# EAGLE library part 6260XX110201_626007110201 (library WR-NPC2)
WR-NPC2 Male Header - Single Row - THT Characteristics Properties Working Voltage: 250 V Operating Temperature: -40°C up to +105°C Durability: 25 Mating cycles UL Approval: E323964 UL 94-V0 Glow Wire Approval: IEC 60335-1 Fully isolated & Protected contacts Features Coding against Mismating Applications Industrial Home Appliances Telecommunication <https://www.we-online.com/components/media/o786322v209%20Multi-WR-NPC2-626007120101.jpg> Details see: www.we-online.com/components/products/WR_NPC2_MALE_HEADER_SINGLE_ROW_THT <www.we-online.com/catalog/WR_NPC2_MALE_HEADER_SINGLE_ROW_THT/?utm_source=eagle_model&utm_medium=description_link&utm_campaign=eisos_eagle> Created by Ella Wu 2024-11-06 2024 (C) Wurth Elektronik
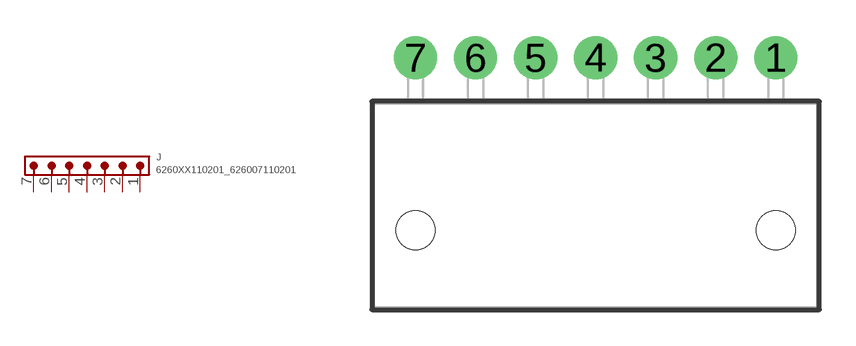
[diagram p12: symbol with the pads of 626007110201; footprint 626007110201]

Designator prefix J

## 6260XX110201_626007110201 (CONTACT-RESISTANCE: 10mOhm; DATASHEET-URL: https://www.we-online.com/redexpert/spec/626007110201?ae; GENDER: Male; IR: 6.5A; MOUNT: THT; PACKAGING: Tray; PART-NUMBER: 626007110201; PITCH: 2.5mm; POLARITY: 7; ROWS: Single Row; TYPE: Right Angled; VALUE: 626007110201; WORKING-VOLTAGE: 250V (AC))  [626007110201]
1  1  pas
2  2  pas
3  3  pas
4  4  pas
5  5  pas
6  6  pas
7  7  pas

## Footprint 626007110201 (pad centres in mm)
WR-NPC2 THT Single Row Male Header Right Angled without Plastic Pegs THT, 7pins
drill 1.2: 1 7.5,7.18; 2 5,7.18; 3 2.5,7.18; 4 0,7.18; 5 -2.5,7.18; 6 -5,7.18; 7 -7.5,7.18
hole 1.6 at -7.5,0
hole 1.6 at 7.5,0